# Altium footprint library X1 & Y1 Capacitors.PcbLib: 1 footprints
Each footprint in its own frame and in the unit in brackets; x right, y up, seen from the top. Pads: shape width x height; smd on the part's side, far side on the other; paste and mask are expansions set on the pad; w line width, h text height; cw(c..) or ccw(c..) is an arc to the next point about the centre after c.
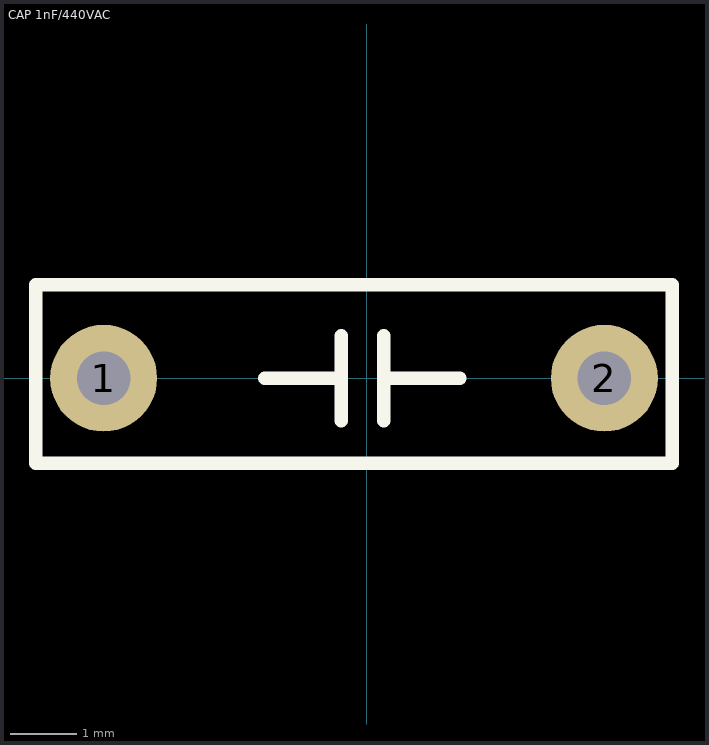
[diagram p0: the footprint, top view; thin cyan lines are the x and y axes]

## CAP 1nF/440VAC [mm] "1000pF ±20% 440VAC Ceramic Capacitor E Radial, Disc Class X1Y1"
pads (2):
  round 1.6 hole 0.8: 1(-3.937,0) 2(3.556,0)
Top Overlay:
  lines w0.2: -1.524,0 -0.381,0 ; -0.381,-0.635 -0.381,0 ; -0.381,0.635 -0.381,0 ; 0.254,-0.635 0.254,0.635 ; 0.254,0 1.397,0 ; -4.953,-1.27 4.572,-1.27 4.572,1.397 -4.953,1.397 -4.953,-1.27
3D body "Cx Cy capacitor 10mm.step": height 8.89, standoff -4.32, extent -4.127,-1.143 3.874,1.239